# Altium integrated library Linear Technology Power Management System Supervisor, Monitor and Control.IntLib: 1611 symbols (part 97 of 100)
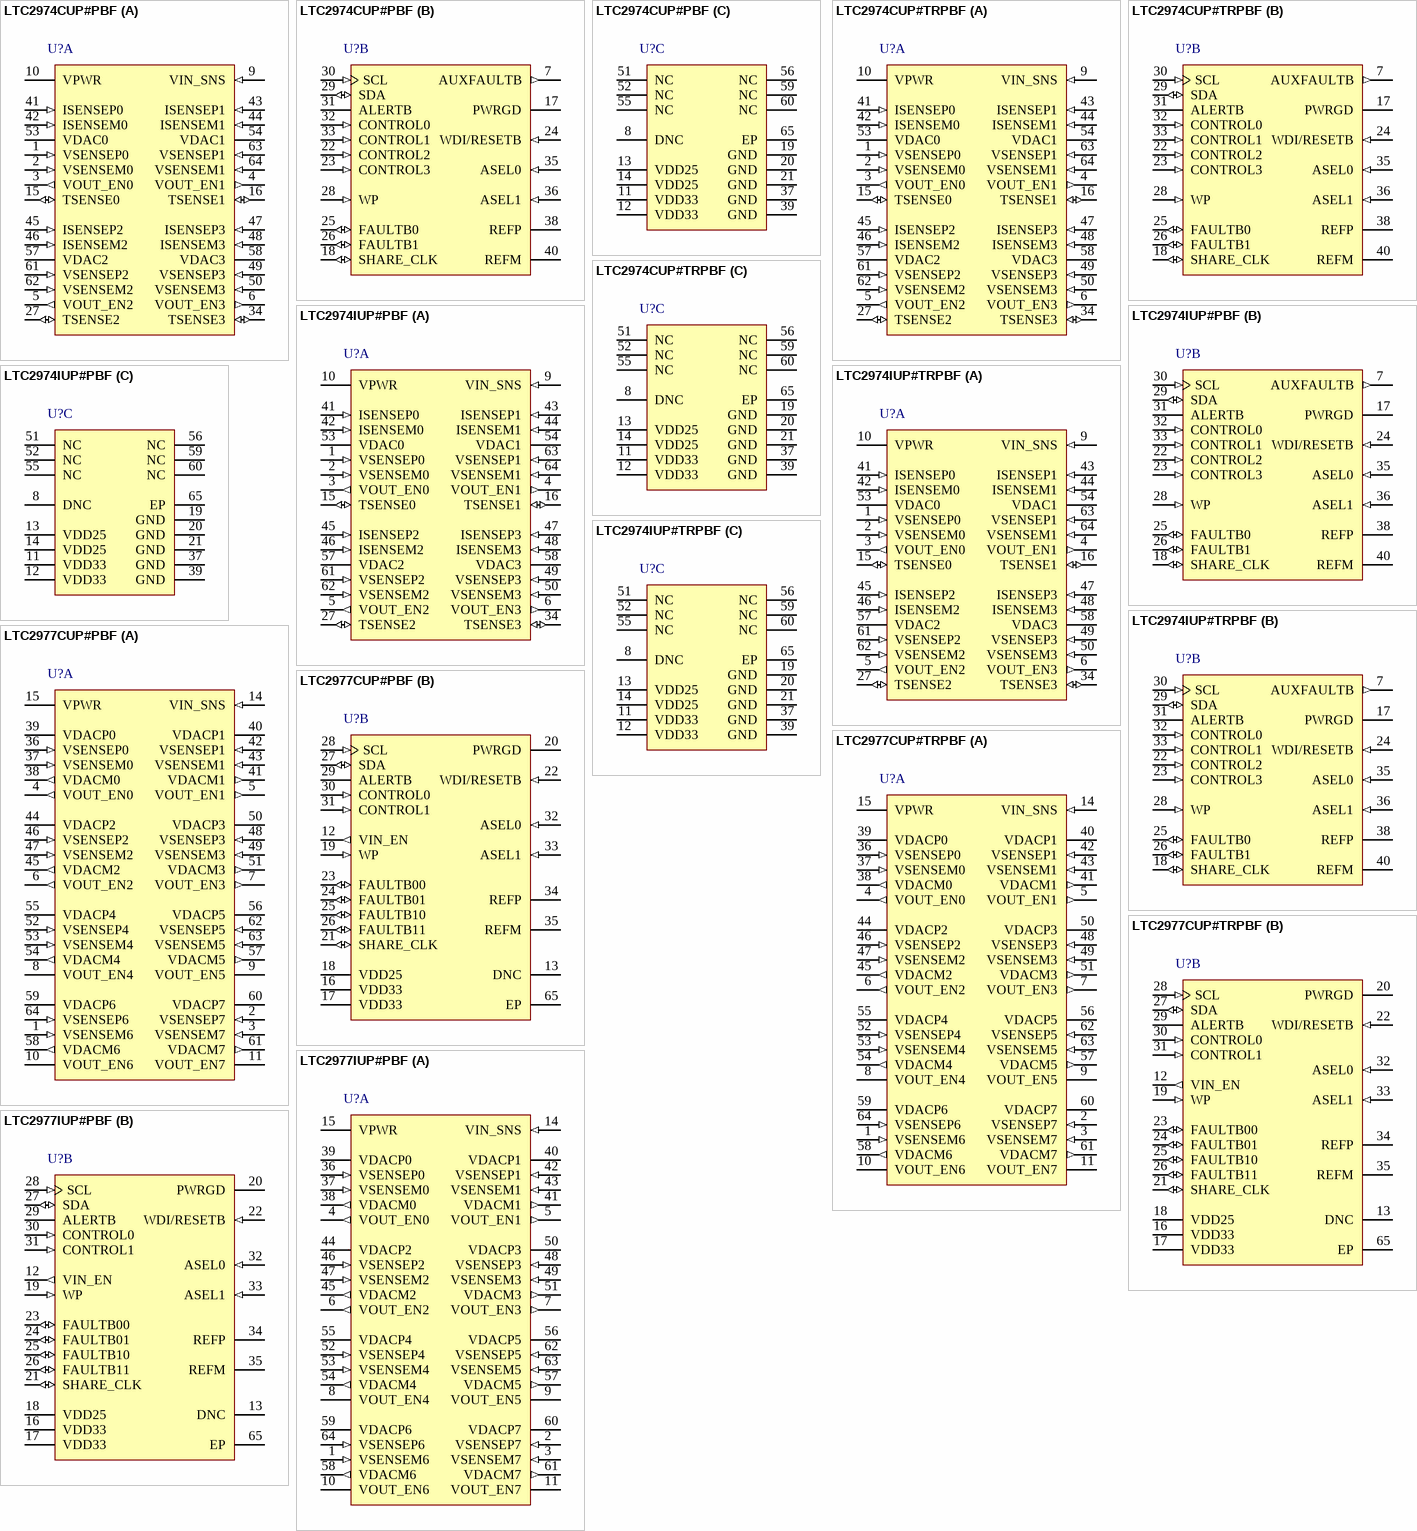
[diagram p141: symbols LTC2974CUP#PBF to LTC2977IUP#PBF]

## LTC2974CUP#TRPBF
designator U?
Quad Digital Power Supply Manager with EEPROM, 64-pin QFN (UP-64), 0 to 70 degC, Pb-Free, Tape and Reel; Manufacturer: Linear Technology; PartNumber: LTC2974CUP#TRPBF; Number of Supplies(#): 4; DatasheetVersion: Rev. A; PackageVersion: Rev. C, 06/2010; PackageReference: UP-64; PackageDescription: 64-Pin Plastic QFN, Body 9 x 9 mm, Pitch 0.5 mm; Supplier 1: Digi-Key; Supplier Part Number 1: LTC2974CUP#TRPBF-ND; Supplier 2: Newark; Supplier Part Number 2: 82T3896; Packing: Tape and Reel; RoHS: TRUE; Mounting Technology: Surface Mount; Code_JEDEC: MO-220; ComponentLink1Description: Manufacturer URL; ComponentLink1URL: http://www.linear.com/; ComponentLink2Description: Datasheet; ComponentLink2URL: http://cds.linear.com/docs/en/datasheet/2974fa.pdf; ComponentLink3Description: Package Specification; ComponentLink3URL: http://cds.linear.com/docs/en/packaging/QFN_64_05-08-1705.pdf
footprint LT-UP-64_N (QFN, 64-Leads, Body 9.1x9.1mm, Pitch 0.5mm, Thermal Pad 7.15x7.15mm, IPC Medium Density)
footprint LT-UP-64_L (QFN, 64-Leads, Body 9.1x9.1mm, Pitch 0.5mm, Thermal Pad 7.15x7.15mm, IPC High Density)
footprint LT-UP-64_M (QFN, 64-Leads, Body 9.1x9.1mm, Pitch 0.5mm, Thermal Pad 7.15x7.15mm, IPC Low Density)
part A pins: 1 VSENSEP0 (in) "DC/DC Converter Differential (+) Output Voltage-0 Sensing Pin", 2 VSENSEM0 (in) "DC/DC Converter Differential (-) Output Voltage-0 Sensing Pin", 3 VOUT_EN0 (out) "DC/DC Converter Enable-0 Pin. Output High Voltage Optionally Pulled-Up to 12V by 5uA", 4 VOUT_EN1 (out) "DC/DC Converter Enable-1 Pin. Output High Voltage Optionally Pulled-Up to 12V by 5uA", 5 VOUT_EN2 (out) "DC/DC Converter Enable-2 Pin. Output High Voltage Optionally Pulled-Up to 12V by 5uA", 6 VOUT_EN3 (out) "DC/DC Converter Enable-3 Pin. Output High Voltage Optionally Pulled-Up to 12V by 5uA", 9 VIN_SNS (in) "VIN SENSE Input. This Voltage is Compared Against the VIN On and Off Voltage Thresholds In Order to Determine When to Enable and Disable, Respectively, the Downstream DC/DC Converters", 10 VPWR (power) "VPWR Serves as the Unregulated Power Supply Input to the Chip (4.5 to 15V). If a 4.5V to 15V Supply Voltage Is Unavailable, Short VPWR to VDD33 and Power the Chip Directly from a 3.3V Supply. Bypass to GND with 0.1uF (See Datasheet)", 15 TSENSE0 (io) "External Temperature Current Output and Voltage Input for Channel 0. Maximum allowed capacitance is 1uF", 16 TSENSE1 (io) "External Temperature Current Output and Voltage Input for Channel 1. Maximum allowed capacitance is 1uF", 27 TSENSE2 (io) "External Temperature Current Output and Voltage Input for Channel 2. Maximum allowed capacitance is 1uF", 34 TSENSE3 (io) "External Temperature Current Output and Voltage Input for Channel 3. Maximum allowed capacitance is 1uF", 41 ISENSEP0 (in) "DC/DC Converter Differential (+) Output Current-0 Sensing Pin", 42 ISENSEM0 (in) "DC/DC Converter Differential (-) Output Current-0 Sensing Pin", 43 ISENSEP1 (in) "DC/DC Converter Differential (+) Output Current-1 Sensing Pin", 44 ISENSEM1 (in) "DC/DC Converter Differential (-) Output Current-1 Sensing Pin", 45 ISENSEP2 (in) "DC/DC Converter Differential (+) Output Current-2 Sensing Pin", 46 ISENSEM2 (in) "DC/DC Converter Differential (-) Output Current-2 Sensing Pin", 47 ISENSEP3 (in) "DC/DC Converter Differential (+) Output Current-3 Sensing Pin", 48 ISENSEM3 (in) "DC/DC Converter Differential (-) Output Current-3 Sensing Pin", 49 VSENSEP3 (in) "DC/DC Converter Differential (+) Output Voltage-3 Sensing Pin", 50 VSENSEM3 (in) "DC/DC Converter Differential (-) Output Voltage-3 Sensing Pin", 53 VDAC0 (hiz) "DAC0 Output", 54 VDAC1 (hiz) "DAC1 Output", 57 VDAC2 (hiz) "DAC2 Output", 58 VDAC3 (hiz) "DAC3 Output", 61 VSENSEP2 (in) "DC/DC Converter Differential (+) Output Voltage-2 Sensing Pin", 62 VSENSEM2 (in) "DC/DC Converter Differential (-) Output Voltage-2 Sensing Pin", 63 VSENSEP1 (in) "DC/DC Converter Differential (+) Output Voltage-1 Sensing Pin", 64 VSENSEM1 (in) "DC/DC Converter Differential (-) Output Voltage-1 Sensing Pin"
part B pins: 7 AUXFAULTB (out) "Auxillary Fault Output Pin. Output High Voltage Optionally Pulled-Up to 12V by 5uA. Can Be Configured to Pull Low When OV/UV/OC/UC Detected", 17 PWRGD (oc) "Power-Good Open Drain Output. Indicates When Selected Outputs Are Power Good. Can be Used as System Power-on Reset", 18 SHARE_CLK (io) "Bidirectional Clock Sharing Pin. Connect a 5.49kohm Pull-Up Resistor to VDD33", 22 CONTROL2 (in) "Control Pin 2 Input", 23 CONTROL3 (in) "Control Pin 3 Input", 24 WDI/RESETB (in) "Watchdog Timer Interrupt and Chip Reset Input. Connect a 10kohm Pull-Up Resistor to VDD33. Rising Edge Resets Watchdog Counter. Holding this Pin Low for More than tRESETB Resets the Chip", 25 FAULTB0 (io) "Open-Drain Output and Digital Input. Active Low Bidirectional Fault Indicator-0. Connect a 10kohm Pull-Up Resistor to VDD33", 26 FAULTB1 (io) "Open-Drain Output and Digital Input. Active Low Bidirectional Fault Indicator-1. Connect a 10kohm Pull-Up Resistor to VDD33", 28 WP (in) "Digital Input. Write-Protect Input Pin, Active High", 29 SDA (io) "PMBus Bidirectional Serial Data Pin", 30 SCL (in) "PMBus Serial Clock Input Pin (400kHz Maximum)", 31 ALERTB (oc) "Open-Drain Output. Generates an Interrupt Request in a Fault/Warning Situation", 32 CONTROL0 (in) "Control Pin 0 Input", 33 CONTROL1 (in) "Control Pin 1 Input", 35 ASEL0 (in) "Ternary Address Select Pin 0 Input. Connect to VDD33, GND or Float to Encode 1 of 3 Logic States", 36 ASEL1 (in) "Ternary Address Select Pin 1 Input. Connect to VDD33, GND or Float to Encode 1 of 3 Logic States", 38 REFP "Reference Voltage Output. Needs 0.1uF Decoupling Capacitor to REFM", 40 REFM "Reference Return Pin. Needs 0.1uF Decoupling Capacitor to REFP"
part C pins: 8 DNC "Do Not Connect to this Pin", 11 VDD33 (power) "If Shorted to VPWR, It Serves as 3.13 to 3.47V Supply Input Pin. Otherwise It Is a 3.3V Internally Regulated Voltage Output (Use 0.1uF Decoupling Capacitor to GND)", 12 VDD33 (power) "Input for Internal 2.5V Sub-Regulator. Short this Pin to Pin 11", 13 VDD25 (power) "2.5V Internally Regulated Voltage Output. Bypass to GND with a 0.1uF Capacitor", 14 VDD25 (power) "2.5V Supply Voltage Input. Short this Pin to Pin 13", 19 GND (power) "Chip Ground. Must Be Soldered to PCB", 20 GND (power) "Chip Ground. Must Be Soldered to PCB", 21 GND (power) "Chip Ground. Must Be Soldered to PCB", 37 GND (power) "Chip Ground. Must Be Soldered to PCB", 39 GND (power) "Chip Ground. Must Be Soldered to PCB", 51 NC "No Connect", 52 NC "No Connect", 55 NC "No Connect", 56 NC "No Connect", 59 NC "No Connect", 60 NC "No Connect", 65 EP (power) "Exposed Pad. Must Be Soldered to PCB"

## LTC2974IUP#PBF
designator U?
Quad Digital Power Supply Manager with EEPROM, 64-pin QFN (UP-64), -40 to 85 degC, Pb-Free; Manufacturer: Linear Technology; PartNumber: LTC2974IUP#PBF; Number of Supplies(#): 4; DatasheetVersion: Rev. A; PackageVersion: Rev. C, 06/2010; PackageReference: UP-64; PackageDescription: 64-Pin Plastic QFN, Body 9 x 9 mm, Pitch 0.5 mm; Supplier 1: Digi-Key; Supplier Part Number 1: LTC2974IUP#PBF-ND; Supplier 2: Farnell; Supplier Part Number 2: 2097944; Supplier 3: Newark; Supplier Part Number 3: 82T3897; RoHS: TRUE; Mounting Technology: Surface Mount; Code_JEDEC: MO-220; ComponentLink1Description: Manufacturer URL; ComponentLink1URL: http://www.linear.com/; ComponentLink2Description: Datasheet; ComponentLink2URL: http://cds.linear.com/docs/en/datasheet/2974fa.pdf; ComponentLink3Description: Package Specification; ComponentLink3URL: http://cds.linear.com/docs/en/packaging/QFN_64_05-08-1705.pdf
footprint LT-UP-64_N (QFN, 64-Leads, Body 9.1x9.1mm, Pitch 0.5mm, Thermal Pad 7.15x7.15mm, IPC Medium Density)
footprint LT-UP-64_L (QFN, 64-Leads, Body 9.1x9.1mm, Pitch 0.5mm, Thermal Pad 7.15x7.15mm, IPC High Density)
footprint LT-UP-64_M (QFN, 64-Leads, Body 9.1x9.1mm, Pitch 0.5mm, Thermal Pad 7.15x7.15mm, IPC Low Density)
part A pins: 1 VSENSEP0 (in) "DC/DC Converter Differential (+) Output Voltage-0 Sensing Pin", 2 VSENSEM0 (in) "DC/DC Converter Differential (-) Output Voltage-0 Sensing Pin", 3 VOUT_EN0 (out) "DC/DC Converter Enable-0 Pin. Output High Voltage Optionally Pulled-Up to 12V by 5uA", 4 VOUT_EN1 (out) "DC/DC Converter Enable-1 Pin. Output High Voltage Optionally Pulled-Up to 12V by 5uA", 5 VOUT_EN2 (out) "DC/DC Converter Enable-2 Pin. Output High Voltage Optionally Pulled-Up to 12V by 5uA", 6 VOUT_EN3 (out) "DC/DC Converter Enable-3 Pin. Output High Voltage Optionally Pulled-Up to 12V by 5uA", 9 VIN_SNS (in) "VIN SENSE Input. This Voltage is Compared Against the VIN On and Off Voltage Thresholds In Order to Determine When to Enable and Disable, Respectively, the Downstream DC/DC Converters", 10 VPWR (power) "VPWR Serves as the Unregulated Power Supply Input to the Chip (4.5 to 15V). If a 4.5V to 15V Supply Voltage Is Unavailable, Short VPWR to VDD33 and Power the Chip Directly from a 3.3V Supply. Bypass to GND with 0.1uF (See Datasheet)", 15 TSENSE0 (io) "External Temperature Current Output and Voltage Input for Channel 0. Maximum allowed capacitance is 1uF", 16 TSENSE1 (io) "External Temperature Current Output and Voltage Input for Channel 1. Maximum allowed capacitance is 1uF", 27 TSENSE2 (io) "External Temperature Current Output and Voltage Input for Channel 2. Maximum allowed capacitance is 1uF", 34 TSENSE3 (io) "External Temperature Current Output and Voltage Input for Channel 3. Maximum allowed capacitance is 1uF", 41 ISENSEP0 (in) "DC/DC Converter Differential (+) Output Current-0 Sensing Pin", 42 ISENSEM0 (in) "DC/DC Converter Differential (-) Output Current-0 Sensing Pin", 43 ISENSEP1 (in) "DC/DC Converter Differential (+) Output Current-1 Sensing Pin", 44 ISENSEM1 (in) "DC/DC Converter Differential (-) Output Current-1 Sensing Pin", 45 ISENSEP2 (in) "DC/DC Converter Differential (+) Output Current-2 Sensing Pin", 46 ISENSEM2 (in) "DC/DC Converter Differential (-) Output Current-2 Sensing Pin", 47 ISENSEP3 (in) "DC/DC Converter Differential (+) Output Current-3 Sensing Pin", 48 ISENSEM3 (in) "DC/DC Converter Differential (-) Output Current-3 Sensing Pin", 49 VSENSEP3 (in) "DC/DC Converter Differential (+) Output Voltage-3 Sensing Pin", 50 VSENSEM3 (in) "DC/DC Converter Differential (-) Output Voltage-3 Sensing Pin", 53 VDAC0 (hiz) "DAC0 Output", 54 VDAC1 (hiz) "DAC1 Output", 57 VDAC2 (hiz) "DAC2 Output", 58 VDAC3 (hiz) "DAC3 Output", 61 VSENSEP2 (in) "DC/DC Converter Differential (+) Output Voltage-2 Sensing Pin", 62 VSENSEM2 (in) "DC/DC Converter Differential (-) Output Voltage-2 Sensing Pin", 63 VSENSEP1 (in) "DC/DC Converter Differential (+) Output Voltage-1 Sensing Pin", 64 VSENSEM1 (in) "DC/DC Converter Differential (-) Output Voltage-1 Sensing Pin"
part B pins: 7 AUXFAULTB (out) "Auxillary Fault Output Pin. Output High Voltage Optionally Pulled-Up to 12V by 5uA. Can Be Configured to Pull Low When OV/UV/OC/UC Detected", 17 PWRGD (oc) "Power-Good Open Drain Output. Indicates When Selected Outputs Are Power Good. Can be Used as System Power-on Reset", 18 SHARE_CLK (io) "Bidirectional Clock Sharing Pin. Connect a 5.49kohm Pull-Up Resistor to VDD33", 22 CONTROL2 (in) "Control Pin 2 Input", 23 CONTROL3 (in) "Control Pin 3 Input", 24 WDI/RESETB (in) "Watchdog Timer Interrupt and Chip Reset Input. Connect a 10kohm Pull-Up Resistor to VDD33. Rising Edge Resets Watchdog Counter. Holding this Pin Low for More than tRESETB Resets the Chip", 25 FAULTB0 (io) "Open-Drain Output and Digital Input. Active Low Bidirectional Fault Indicator-0. Connect a 10kohm Pull-Up Resistor to VDD33", 26 FAULTB1 (io) "Open-Drain Output and Digital Input. Active Low Bidirectional Fault Indicator-1. Connect a 10kohm Pull-Up Resistor to VDD33", 28 WP (in) "Digital Input. Write-Protect Input Pin, Active High", 29 SDA (io) "PMBus Bidirectional Serial Data Pin", 30 SCL (in) "PMBus Serial Clock Input Pin (400kHz Maximum)", 31 ALERTB (oc) "Open-Drain Output. Generates an Interrupt Request in a Fault/Warning Situation", 32 CONTROL0 (in) "Control Pin 0 Input", 33 CONTROL1 (in) "Control Pin 1 Input", 35 ASEL0 (in) "Ternary Address Select Pin 0 Input. Connect to VDD33, GND or Float to Encode 1 of 3 Logic States", 36 ASEL1 (in) "Ternary Address Select Pin 1 Input. Connect to VDD33, GND or Float to Encode 1 of 3 Logic States", 38 REFP "Reference Voltage Output. Needs 0.1uF Decoupling Capacitor to REFM", 40 REFM "Reference Return Pin. Needs 0.1uF Decoupling Capacitor to REFP"
part C pins: 8 DNC "Do Not Connect to this Pin", 11 VDD33 (power) "If Shorted to VPWR, It Serves as 3.13 to 3.47V Supply Input Pin. Otherwise It Is a 3.3V Internally Regulated Voltage Output (Use 0.1uF Decoupling Capacitor to GND)", 12 VDD33 (power) "Input for Internal 2.5V Sub-Regulator. Short this Pin to Pin 11", 13 VDD25 (power) "2.5V Internally Regulated Voltage Output. Bypass to GND with a 0.1uF Capacitor", 14 VDD25 (power) "2.5V Supply Voltage Input. Short this Pin to Pin 13", 19 GND (power) "Chip Ground. Must Be Soldered to PCB", 20 GND (power) "Chip Ground. Must Be Soldered to PCB", 21 GND (power) "Chip Ground. Must Be Soldered to PCB", 37 GND (power) "Chip Ground. Must Be Soldered to PCB", 39 GND (power) "Chip Ground. Must Be Soldered to PCB", 51 NC "No Connect", 52 NC "No Connect", 55 NC "No Connect", 56 NC "No Connect", 59 NC "No Connect", 60 NC "No Connect", 65 EP (power) "Exposed Pad. Must Be Soldered to PCB"

## LTC2974IUP#TRPBF
designator U?
Quad Digital Power Supply Manager with EEPROM, 64-pin QFN (UP-64), -40 to 85 degC, Pb-Free, Tape and Reel; Manufacturer: Linear Technology; PartNumber: LTC2974IUP#TRPBF; Number of Supplies(#): 4; DatasheetVersion: Rev. A; PackageVersion: Rev. C, 06/2010; PackageReference: UP-64; PackageDescription: 64-Pin Plastic QFN, Body 9 x 9 mm, Pitch 0.5 mm; Supplier 1: Digi-Key; Supplier Part Number 1: LTC2974IUP#TRPBF-ND; Packing: Tape and Reel; RoHS: TRUE; Mounting Technology: Surface Mount; Code_JEDEC: MO-220; ComponentLink1Description: Manufacturer URL; ComponentLink1URL: http://www.linear.com/; ComponentLink2Description: Datasheet; ComponentLink2URL: http://cds.linear.com/docs/en/datasheet/2974fa.pdf; ComponentLink3Description: Package Specification; ComponentLink3URL: http://cds.linear.com/docs/en/packaging/QFN_64_05-08-1705.pdf
footprint LT-UP-64_N (QFN, 64-Leads, Body 9.1x9.1mm, Pitch 0.5mm, Thermal Pad 7.15x7.15mm, IPC Medium Density)
footprint LT-UP-64_L (QFN, 64-Leads, Body 9.1x9.1mm, Pitch 0.5mm, Thermal Pad 7.15x7.15mm, IPC High Density)
footprint LT-UP-64_M (QFN, 64-Leads, Body 9.1x9.1mm, Pitch 0.5mm, Thermal Pad 7.15x7.15mm, IPC Low Density)
part A pins: 1 VSENSEP0 (in) "DC/DC Converter Differential (+) Output Voltage-0 Sensing Pin", 2 VSENSEM0 (in) "DC/DC Converter Differential (-) Output Voltage-0 Sensing Pin", 3 VOUT_EN0 (out) "DC/DC Converter Enable-0 Pin. Output High Voltage Optionally Pulled-Up to 12V by 5uA", 4 VOUT_EN1 (out) "DC/DC Converter Enable-1 Pin. Output High Voltage Optionally Pulled-Up to 12V by 5uA", 5 VOUT_EN2 (out) "DC/DC Converter Enable-2 Pin. Output High Voltage Optionally Pulled-Up to 12V by 5uA", 6 VOUT_EN3 (out) "DC/DC Converter Enable-3 Pin. Output High Voltage Optionally Pulled-Up to 12V by 5uA", 9 VIN_SNS (in) "VIN SENSE Input. This Voltage is Compared Against the VIN On and Off Voltage Thresholds In Order to Determine When to Enable and Disable, Respectively, the Downstream DC/DC Converters", 10 VPWR (power) "VPWR Serves as the Unregulated Power Supply Input to the Chip (4.5 to 15V). If a 4.5V to 15V Supply Voltage Is Unavailable, Short VPWR to VDD33 and Power the Chip Directly from a 3.3V Supply. Bypass to GND with 0.1uF (See Datasheet)", 15 TSENSE0 (io) "External Temperature Current Output and Voltage Input for Channel 0. Maximum allowed capacitance is 1uF", 16 TSENSE1 (io) "External Temperature Current Output and Voltage Input for Channel 1. Maximum allowed capacitance is 1uF", 27 TSENSE2 (io) "External Temperature Current Output and Voltage Input for Channel 2. Maximum allowed capacitance is 1uF", 34 TSENSE3 (io) "External Temperature Current Output and Voltage Input for Channel 3. Maximum allowed capacitance is 1uF", 41 ISENSEP0 (in) "DC/DC Converter Differential (+) Output Current-0 Sensing Pin", 42 ISENSEM0 (in) "DC/DC Converter Differential (-) Output Current-0 Sensing Pin", 43 ISENSEP1 (in) "DC/DC Converter Differential (+) Output Current-1 Sensing Pin", 44 ISENSEM1 (in) "DC/DC Converter Differential (-) Output Current-1 Sensing Pin", 45 ISENSEP2 (in) "DC/DC Converter Differential (+) Output Current-2 Sensing Pin", 46 ISENSEM2 (in) "DC/DC Converter Differential (-) Output Current-2 Sensing Pin", 47 ISENSEP3 (in) "DC/DC Converter Differential (+) Output Current-3 Sensing Pin", 48 ISENSEM3 (in) "DC/DC Converter Differential (-) Output Current-3 Sensing Pin", 49 VSENSEP3 (in) "DC/DC Converter Differential (+) Output Voltage-3 Sensing Pin", 50 VSENSEM3 (in) "DC/DC Converter Differential (-) Output Voltage-3 Sensing Pin", 53 VDAC0 (hiz) "DAC0 Output", 54 VDAC1 (hiz) "DAC1 Output", 57 VDAC2 (hiz) "DAC2 Output", 58 VDAC3 (hiz) "DAC3 Output", 61 VSENSEP2 (in) "DC/DC Converter Differential (+) Output Voltage-2 Sensing Pin", 62 VSENSEM2 (in) "DC/DC Converter Differential (-) Output Voltage-2 Sensing Pin", 63 VSENSEP1 (in) "DC/DC Converter Differential (+) Output Voltage-1 Sensing Pin", 64 VSENSEM1 (in) "DC/DC Converter Differential (-) Output Voltage-1 Sensing Pin"
part B pins: 7 AUXFAULTB (out) "Auxillary Fault Output Pin. Output High Voltage Optionally Pulled-Up to 12V by 5uA. Can Be Configured to Pull Low When OV/UV/OC/UC Detected", 17 PWRGD (oc) "Power-Good Open Drain Output. Indicates When Selected Outputs Are Power Good. Can be Used as System Power-on Reset", 18 SHARE_CLK (io) "Bidirectional Clock Sharing Pin. Connect a 5.49kohm Pull-Up Resistor to VDD33", 22 CONTROL2 (in) "Control Pin 2 Input", 23 CONTROL3 (in) "Control Pin 3 Input", 24 WDI/RESETB (in) "Watchdog Timer Interrupt and Chip Reset Input. Connect a 10kohm Pull-Up Resistor to VDD33. Rising Edge Resets Watchdog Counter. Holding this Pin Low for More than tRESETB Resets the Chip", 25 FAULTB0 (io) "Open-Drain Output and Digital Input. Active Low Bidirectional Fault Indicator-0. Connect a 10kohm Pull-Up Resistor to VDD33", 26 FAULTB1 (io) "Open-Drain Output and Digital Input. Active Low Bidirectional Fault Indicator-1. Connect a 10kohm Pull-Up Resistor to VDD33", 28 WP (in) "Digital Input. Write-Protect Input Pin, Active High", 29 SDA (io) "PMBus Bidirectional Serial Data Pin", 30 SCL (in) "PMBus Serial Clock Input Pin (400kHz Maximum)", 31 ALERTB (oc) "Open-Drain Output. Generates an Interrupt Request in a Fault/Warning Situation", 32 CONTROL0 (in) "Control Pin 0 Input", 33 CONTROL1 (in) "Control Pin 1 Input", 35 ASEL0 (in) "Ternary Address Select Pin 0 Input. Connect to VDD33, GND or Float to Encode 1 of 3 Logic States", 36 ASEL1 (in) "Ternary Address Select Pin 1 Input. Connect to VDD33, GND or Float to Encode 1 of 3 Logic States", 38 REFP "Reference Voltage Output. Needs 0.1uF Decoupling Capacitor to REFM", 40 REFM "Reference Return Pin. Needs 0.1uF Decoupling Capacitor to REFP"
part C pins: 8 DNC "Do Not Connect to this Pin", 11 VDD33 (power) "If Shorted to VPWR, It Serves as 3.13 to 3.47V Supply Input Pin. Otherwise It Is a 3.3V Internally Regulated Voltage Output (Use 0.1uF Decoupling Capacitor to GND)", 12 VDD33 (power) "Input for Internal 2.5V Sub-Regulator. Short this Pin to Pin 11", 13 VDD25 (power) "2.5V Internally Regulated Voltage Output. Bypass to GND with a 0.1uF Capacitor", 14 VDD25 (power) "2.5V Supply Voltage Input. Short this Pin to Pin 13", 19 GND (power) "Chip Ground. Must Be Soldered to PCB", 20 GND (power) "Chip Ground. Must Be Soldered to PCB", 21 GND (power) "Chip Ground. Must Be Soldered to PCB", 37 GND (power) "Chip Ground. Must Be Soldered to PCB", 39 GND (power) "Chip Ground. Must Be Soldered to PCB", 51 NC "No Connect", 52 NC "No Connect", 55 NC "No Connect", 56 NC "No Connect", 59 NC "No Connect", 60 NC "No Connect", 65 EP (power) "Exposed Pad. Must Be Soldered to PCB"

## LTC2977CUP#PBF
designator U?
8-Channel PMBus Power System Manager Featuring Accurate Output Voltage Measurement, 64-pin QFN (UP-64), 0 to 70 degC, Pb-Free; Manufacturer: Linear Technology; PartNumber: LTC2977CUP#PBF; Number of Supplies(#): 8; PackageVersion: Rev. C, 06/2010; PackageReference: UP-64; PackageDescription: 64-Pin Plastic QFN, Body 9 x 9 mm, Pitch 0.5 mm; Supplier 1: Digi-Key; Supplier Part Number 1: LTC2977CUP#PBF-ND; Supplier 2: Farnell; Supplier Part Number 2: 2322393; Supplier 3: Newark; Supplier Part Number 3: 86W7062; RoHS: TRUE; Mounting Technology: Surface Mount; Code_JEDEC: MO-220; ComponentLink1Description: Manufacturer URL; ComponentLink1URL: http://www.linear.com/; ComponentLink2Description: Datasheet; ComponentLink2URL: http://cds.linear.com/docs/en/datasheet/2977f.pdf; ComponentLink3Description: Package Specification; ComponentLink3URL: http://cds.linear.com/docs/en/packaging/QFN_64_05-08-1705.pdf
footprint LT-UP-64_N (QFN, 64-Leads, Body 9.1x9.1mm, Pitch 0.5mm, Thermal Pad 7.15x7.15mm, IPC Medium Density)
footprint LT-UP-64_L (QFN, 64-Leads, Body 9.1x9.1mm, Pitch 0.5mm, Thermal Pad 7.15x7.15mm, IPC High Density)
footprint LT-UP-64_M (QFN, 64-Leads, Body 9.1x9.1mm, Pitch 0.5mm, Thermal Pad 7.15x7.15mm, IPC Low Density)
part A pins: 1 VSENSEM6 (in) "DC/DC Converter Differential (-) Output Voltage-6 Sensing Pin", 2 VSENSEP7 (in) "DC/DC Converter Differential (+) Output Voltage or Current-7 Sensing Pin", 3 VSENSEM7 (in) "DC/DC Converter Differential (-) Output Voltage or Current-7 Sensing Pin", 4 VOUT_EN0 (out) "DC/DC Converter Enable-0 Pin. Output High Voltage Optionally Pulled Up to 12V by 5uA", 5 VOUT_EN1 (out) "DC/DC Converter Enable-1 Pin. Output High Voltage Optionally Pulled Up to 12V by 5uA", 6 VOUT_EN2 (out) "DC/DC Converter Enable-2 Pin. Output High Voltage Optionally Pulled Up to 12V by 5uA", 7 VOUT_EN3 (out) "DC/DC Converter Enable-3 Pin. Output High Voltage Optionally Pulled Up to 12V by 5uA", 8 VOUT_EN4 (oc) "DC/DC Converter Open-Drain Pull-Down Output-4", 9 VOUT_EN5 (oc) "DC/DC Converter Open-Drain Pull-Down Output-5", 10 VOUT_EN6 (oc) "DC/DC Converter Open-Drain Pull-Down Output-6", 11 VOUT_EN7 (oc) "DC/DC Converter Open-Drain Pull-Down Output-7", 14 VIN_SNS (in) "VIN SENSE Input. This Voltage is Compared Against the VIN On and Off Voltage Thresholds in Order to Determine When to Enable and Disable, Respectively, the Downstream DC/DC Converters.", 15 VPWR (power) "VPWR Serves as the Unregulated Power Supply Input to the Chip (4.5V to 15V). If a 4.5V to 15V Supply Voltage is Unavailable, Short VPWR to VDD33 and Power the Chip Directly from a 3.3V Supply. Bypass to GND with 0.1uF (See Datasheet)", 36 VSENSEP0 (in) "DC/DC Converter Differential (+) Output Voltage-0 Sensing Pin", 37 VSENSEM0 (in) "DC/DC Converter Differential (-) Output Voltage-0 Sensing Pin", 38 VDACM0 (out) "DAC0 Return. Connect to Channel 0 DC/DC Converter's GND Sense or Return to GND.", 39 VDACP0 (hiz) "DAC0 Output", 40 VDACP1 (hiz) "DAC1 Output", 41 VDACM1 (out) "DAC1 Return. Connect to Channel 1 DC/DC Converter's GND Sense or Return to GND.", 42 VSENSEP1 (in) "DC/DC Converter Differential (+) Output Voltage or Current-1 Sensing Pins", 43 VSENSEM1 (in) "DC/DC Converter Differential (-) Output Voltage or Current-1 Sensing Pins", 44 VDACP2 (hiz) "DAC2 Output", 45 VDACM2 (out) "DAC2 Return. Connect to Channel 2 DC/DC Converter's GND Sense or Return to GND.", 46 VSENSEP2 (in) "DC/DC Converter Differential (+) Output Voltage-2 Sensing Pin", 47 VSENSEM2 (in) "DC/DC Converter Differential (-) Output Voltage-2 Sensing Pin", 48 VSENSEP3 (in) "DC/DC Converter Differential (+) Output Voltage or Current-3 Sensing Pins", 49 VSENSEM3 (in) "DC/DC Converter Differential (-) Output Voltage or Current-3 Sensing Pins", 50 VDACP3 (hiz) "DAC3 Output", 51 VDACM3 (out) "DAC3 Return. Connect to Channel 3 DC/DC Converter's GND Sense or Return to GND.", 52 VSENSEP4 (in) "DC/DC Converter Differential (+) Output Voltage-4 Sensing Pin", 53 VSENSEM4 (in) "DC/DC Converter Differential (-) Output Voltage-4 Sensing Pin", 54 VDACM4 (out) "DAC4 Return. Connect to Channel 4 DC/DC Converter's GND Sense or Return to GND.", 55 VDACP4 (hiz) "DAC4 Output", 56 VDACP5 (hiz) "DAC5 Output", 57 VDACM5 (out) "DAC5 Return. Connect to Channel 5 DC/DC Converter's GND Sense or Return to GND.", 58 VDACM6 (out) "DAC6 Return. Connect to Channel 6 DC/DC Converter's GND Sense or Return to GND.", 59 VDACP6 (hiz) "DAC6 Output", 60 VDACP7 (hiz) "DAC7 Output", 61 VDACM7 (out) "DAC7 Return. Connect to Channel 7 DC/DC Converter's GND Sense or Return to GND.", 62 VSENSEP5 (in) "DC/DC Converter Differential (+) Output Voltage or Current-5 Sensing Pins", 63 VSENSEM5 (in) "DC/DC Converter Differential (-) Output Voltage or Current-5 Sensing Pins", 64 VSENSEP6 (in) "DC/DC Converter Differential (+) Output Voltage-6 Sensing Pin"
part B pins: 12 VIN_EN (out) "DC/DC Converter VIN ENABLE Pin. Output High Voltage Optionally Pulled Up to 12V by 5uA", 13 DNC "Do Not Connect to This Pin", 16 VDD33 (power) "If Shorted to VPWR, it Serves as 3.13V to 3.47V Supply Input Pin. Otherwise, it is a 3.3V Internally Regulated Voltage Output (Use 0.1uF Decoupling Capacitor to GND).", 17 VDD33 (power) "Input for Internal 2.5V Sub-Regulator. Short This Pin to Pin 16.", 18 VDD25 (power) "2.5V Internally Regulated Voltage Output. Bypass to GND with a 0.1uF Capacitor.", 19 WP (in) "Digital Input. Write-Protect Input Pin, Active High.", 20 PWRGD (oc) "Power Good Open-Drain Output. Indicates When Outputs are Power Good. Can be Used as System Power-On Reset.", 21 SHARE_CLK (io) "Bidirectional Clock Sharing Pin. Connect a 5.49k Pull-Up Resistor to VDD33.", 22 WDI/RESETB (in) "Watchdog Timer Interrupt and Chip Reset Input. Connect a 10k Pull-Up Resistor to VDD33. Rising Edge Resets Watchdog Counter. Holding This Pin Low for More Than tRESETB Resets the Chip.", 23 FAULTB00 (io) "Open-Drain Output and Digital Input. Active Low Bidirectional Fault Indicator-00. Connect a 10k Pull-Up Resistor to VDD33.", 24 FAULTB01 (io) "Open-Drain Output and Digital Input. Active Low Bidirectional Fault Indicator-01. Connect a 10k Pull-Up Resistor to VDD33.", 25 FAULTB10 (io) "Open-Drain Output and Digital Input. Active Low Bidirectional Fault Indicator-10. Connect a 10k Pull-Up Resistor to VDD33.", 26 FAULTB11 (io) "Open-Drain Output and Digital Input. Active Low Bidirectional Fault Indicator-11. Connect a 10k Pull-Up Resistor to VDD33.", 27 SDA (io) "PMBus Bidirectional Serial Data Pin", 28 SCL (in) "PMBus Serial Clock Input Pin (400kHz Maximum)", 29 ALERTB (oc) "Open-Drain Output. Generates an Interrupt Request in a Fault/Warning Situation.", 30 CONTROL0 (in) "Control Pin 0 Input", 31 CONTROL1 (in) "Control Pin 1 Input", 32 ASEL0 (in) "Ternary Address Select Pin 0 Input. Connect to VDD33, GND or Float to Encode 1 of 3 Logic States.", 33 ASEL1 (in) "Ternary Address Select Pin 1 Input. Connect to VDD33, GND or Float to Encode 1 of 3 Logic States.", 34 REFP "Reference Voltage Output. Needs 0.1uF Decoupling Capacitor to REFM.", 35 REFM "Reference Return Pin. Needs 0.1uF Decoupling Capacitor to REFP.", 65 EP (power) "Exposed Pad, Must be Soldered to PCB"

## LTC2977CUP#TRPBF
designator U?
8-Channel PMBus Power System Manager Featuring Accurate Output Voltage Measurement, 64-pin QFN (UP-64), 0 to 70 degC, Pb-Free, Tape and Reel; Manufacturer: Linear Technology; PartNumber: LTC2977CUP#TRPBF; Number of Supplies(#): 8; PackageVersion: Rev. C, 06/2010; PackageReference: UP-64; PackageDescription: 64-Pin Plastic QFN, Body 9 x 9 mm, Pitch 0.5 mm; Supplier 1: Digi-Key; Supplier Part Number 1: LTC2977CUP#TRPBF-ND; Supplier 2: Newark; Supplier Part Number 2: 86W7063; Supplier 3: Newark; Supplier Part Number 3: 87W6203; Packing: Tape and Reel; RoHS: TRUE; Mounting Technology: Surface Mount; Code_JEDEC: MO-220; ComponentLink1Description: Manufacturer URL; ComponentLink1URL: http://www.linear.com/; ComponentLink2Description: Datasheet; ComponentLink2URL: http://cds.linear.com/docs/en/datasheet/2977f.pdf; ComponentLink3Description: Package Specification; ComponentLink3URL: http://cds.linear.com/docs/en/packaging/QFN_64_05-08-1705.pdf
footprint LT-UP-64_N (QFN, 64-Leads, Body 9.1x9.1mm, Pitch 0.5mm, Thermal Pad 7.15x7.15mm, IPC Medium Density)
footprint LT-UP-64_L (QFN, 64-Leads, Body 9.1x9.1mm, Pitch 0.5mm, Thermal Pad 7.15x7.15mm, IPC High Density)
footprint LT-UP-64_M (QFN, 64-Leads, Body 9.1x9.1mm, Pitch 0.5mm, Thermal Pad 7.15x7.15mm, IPC Low Density)
part A pins: 1 VSENSEM6 (in) "DC/DC Converter Differential (-) Output Voltage-6 Sensing Pin", 2 VSENSEP7 (in) "DC/DC Converter Differential (+) Output Voltage or Current-7 Sensing Pin", 3 VSENSEM7 (in) "DC/DC Converter Differential (-) Output Voltage or Current-7 Sensing Pin", 4 VOUT_EN0 (out) "DC/DC Converter Enable-0 Pin. Output High Voltage Optionally Pulled Up to 12V by 5uA", 5 VOUT_EN1 (out) "DC/DC Converter Enable-1 Pin. Output High Voltage Optionally Pulled Up to 12V by 5uA", 6 VOUT_EN2 (out) "DC/DC Converter Enable-2 Pin. Output High Voltage Optionally Pulled Up to 12V by 5uA", 7 VOUT_EN3 (out) "DC/DC Converter Enable-3 Pin. Output High Voltage Optionally Pulled Up to 12V by 5uA", 8 VOUT_EN4 (oc) "DC/DC Converter Open-Drain Pull-Down Output-4", 9 VOUT_EN5 (oc) "DC/DC Converter Open-Drain Pull-Down Output-5", 10 VOUT_EN6 (oc) "DC/DC Converter Open-Drain Pull-Down Output-6", 11 VOUT_EN7 (oc) "DC/DC Converter Open-Drain Pull-Down Output-7", 14 VIN_SNS (in) "VIN SENSE Input. This Voltage is Compared Against the VIN On and Off Voltage Thresholds in Order to Determine When to Enable and Disable, Respectively, the Downstream DC/DC Converters.", 15 VPWR (power) "VPWR Serves as the Unregulated Power Supply Input to the Chip (4.5V to 15V). If a 4.5V to 15V Supply Voltage is Unavailable, Short VPWR to VDD33 and Power the Chip Directly from a 3.3V Supply. Bypass to GND with 0.1uF (See Datasheet)", 36 VSENSEP0 (in) "DC/DC Converter Differential (+) Output Voltage-0 Sensing Pin", 37 VSENSEM0 (in) "DC/DC Converter Differential (-) Output Voltage-0 Sensing Pin", 38 VDACM0 (out) "DAC0 Return. Connect to Channel 0 DC/DC Converter's GND Sense or Return to GND.", 39 VDACP0 (hiz) "DAC0 Output", 40 VDACP1 (hiz) "DAC1 Output", 41 VDACM1 (out) "DAC1 Return. Connect to Channel 1 DC/DC Converter's GND Sense or Return to GND.", 42 VSENSEP1 (in) "DC/DC Converter Differential (+) Output Voltage or Current-1 Sensing Pins", 43 VSENSEM1 (in) "DC/DC Converter Differential (-) Output Voltage or Current-1 Sensing Pins", 44 VDACP2 (hiz) "DAC2 Output", 45 VDACM2 (out) "DAC2 Return. Connect to Channel 2 DC/DC Converter's GND Sense or Return to GND.", 46 VSENSEP2 (in) "DC/DC Converter Differential (+) Output Voltage-2 Sensing Pin", 47 VSENSEM2 (in) "DC/DC Converter Differential (-) Output Voltage-2 Sensing Pin", 48 VSENSEP3 (in) "DC/DC Converter Differential (+) Output Voltage or Current-3 Sensing Pins", 49 VSENSEM3 (in) "DC/DC Converter Differential (-) Output Voltage or Current-3 Sensing Pins", 50 VDACP3 (hiz) "DAC3 Output", 51 VDACM3 (out) "DAC3 Return. Connect to Channel 3 DC/DC Converter's GND Sense or Return to GND.", 52 VSENSEP4 (in) "DC/DC Converter Differential (+) Output Voltage-4 Sensing Pin", 53 VSENSEM4 (in) "DC/DC Converter Differential (-) Output Voltage-4 Sensing Pin", 54 VDACM4 (out) "DAC4 Return. Connect to Channel 4 DC/DC Converter's GND Sense or Return to GND.", 55 VDACP4 (hiz) "DAC4 Output", 56 VDACP5 (hiz) "DAC5 Output", 57 VDACM5 (out) "DAC5 Return. Connect to Channel 5 DC/DC Converter's GND Sense or Return to GND.", 58 VDACM6 (out) "DAC6 Return. Connect to Channel 6 DC/DC Converter's GND Sense or Return to GND.", 59 VDACP6 (hiz) "DAC6 Output", 60 VDACP7 (hiz) "DAC7 Output", 61 VDACM7 (out) "DAC7 Return. Connect to Channel 7 DC/DC Converter's GND Sense or Return to GND.", 62 VSENSEP5 (in) "DC/DC Converter Differential (+) Output Voltage or Current-5 Sensing Pins", 63 VSENSEM5 (in) "DC/DC Converter Differential (-) Output Voltage or Current-5 Sensing Pins", 64 VSENSEP6 (in) "DC/DC Converter Differential (+) Output Voltage-6 Sensing Pin"
part B pins: 12 VIN_EN (out) "DC/DC Converter VIN ENABLE Pin. Output High Voltage Optionally Pulled Up to 12V by 5uA", 13 DNC "Do Not Connect to This Pin", 16 VDD33 (power) "If Shorted to VPWR, it Serves as 3.13V to 3.47V Supply Input Pin. Otherwise, it is a 3.3V Internally Regulated Voltage Output (Use 0.1uF Decoupling Capacitor to GND).", 17 VDD33 (power) "Input for Internal 2.5V Sub-Regulator. Short This Pin to Pin 16.", 18 VDD25 (power) "2.5V Internally Regulated Voltage Output. Bypass to GND with a 0.1uF Capacitor.", 19 WP (in) "Digital Input. Write-Protect Input Pin, Active High.", 20 PWRGD (oc) "Power Good Open-Drain Output. Indicates When Outputs are Power Good. Can be Used as System Power-On Reset.", 21 SHARE_CLK (io) "Bidirectional Clock Sharing Pin. Connect a 5.49k Pull-Up Resistor to VDD33.", 22 WDI/RESETB (in) "Watchdog Timer Interrupt and Chip Reset Input. Connect a 10k Pull-Up Resistor to VDD33. Rising Edge Resets Watchdog Counter. Holding This Pin Low for More Than tRESETB Resets the Chip.", 23 FAULTB00 (io) "Open-Drain Output and Digital Input. Active Low Bidirectional Fault Indicator-00. Connect a 10k Pull-Up Resistor to VDD33.", 24 FAULTB01 (io) "Open-Drain Output and Digital Input. Active Low Bidirectional Fault Indicator-01. Connect a 10k Pull-Up Resistor to VDD33.", 25 FAULTB10 (io) "Open-Drain Output and Digital Input. Active Low Bidirectional Fault Indicator-10. Connect a 10k Pull-Up Resistor to VDD33.", 26 FAULTB11 (io) "Open-Drain Output and Digital Input. Active Low Bidirectional Fault Indicator-11. Connect a 10k Pull-Up Resistor to VDD33.", 27 SDA (io) "PMBus Bidirectional Serial Data Pin", 28 SCL (in) "PMBus Serial Clock Input Pin (400kHz Maximum)", 29 ALERTB (oc) "Open-Drain Output. Generates an Interrupt Request in a Fault/Warning Situation.", 30 CONTROL0 (in) "Control Pin 0 Input", 31 CONTROL1 (in) "Control Pin 1 Input", 32 ASEL0 (in) "Ternary Address Select Pin 0 Input. Connect to VDD33, GND or Float to Encode 1 of 3 Logic States.", 33 ASEL1 (in) "Ternary Address Select Pin 1 Input. Connect to VDD33, GND or Float to Encode 1 of 3 Logic States.", 34 REFP "Reference Voltage Output. Needs 0.1uF Decoupling Capacitor to REFM.", 35 REFM "Reference Return Pin. Needs 0.1uF Decoupling Capacitor to REFP.", 65 EP (power) "Exposed Pad, Must be Soldered to PCB"

## LTC2977IUP#PBF
designator U?
8-Channel PMBus Power System Manager Featuring Accurate Output Voltage Measurement, 64-pin QFN (UP-64), -40 to 105 degC, Pb-Free; Manufacturer: Linear Technology; PartNumber: LTC2977IUP#PBF; Number of Supplies(#): 8; PackageVersion: Rev. C, 06/2010; PackageReference: UP-64; PackageDescription: 64-Pin Plastic QFN, Body 9 x 9 mm, Pitch 0.5 mm; Supplier 1: Digi-Key; Supplier Part Number 1: LTC2977IUP#PBF-ND; Supplier 2: Farnell; Supplier Part Number 2: 2322394; Supplier 3: Newark; Supplier Part Number 3: 86W7064; RoHS: TRUE; Mounting Technology: Surface Mount; Code_JEDEC: MO-220; ComponentLink1Description: Manufacturer URL; ComponentLink1URL: http://www.linear.com/; ComponentLink2Description: Datasheet; ComponentLink2URL: http://cds.linear.com/docs/en/datasheet/2977f.pdf; ComponentLink3Description: Package Specification; ComponentLink3URL: http://cds.linear.com/docs/en/packaging/QFN_64_05-08-1705.pdf
footprint LT-UP-64_N (QFN, 64-Leads, Body 9.1x9.1mm, Pitch 0.5mm, Thermal Pad 7.15x7.15mm, IPC Medium Density)
footprint LT-UP-64_L (QFN, 64-Leads, Body 9.1x9.1mm, Pitch 0.5mm, Thermal Pad 7.15x7.15mm, IPC High Density)
footprint LT-UP-64_M (QFN, 64-Leads, Body 9.1x9.1mm, Pitch 0.5mm, Thermal Pad 7.15x7.15mm, IPC Low Density)
part A pins: 1 VSENSEM6 (in) "DC/DC Converter Differential (-) Output Voltage-6 Sensing Pin", 2 VSENSEP7 (in) "DC/DC Converter Differential (+) Output Voltage or Current-7 Sensing Pin", 3 VSENSEM7 (in) "DC/DC Converter Differential (-) Output Voltage or Current-7 Sensing Pin", 4 VOUT_EN0 (out) "DC/DC Converter Enable-0 Pin. Output High Voltage Optionally Pulled Up to 12V by 5uA", 5 VOUT_EN1 (out) "DC/DC Converter Enable-1 Pin. Output High Voltage Optionally Pulled Up to 12V by 5uA", 6 VOUT_EN2 (out) "DC/DC Converter Enable-2 Pin. Output High Voltage Optionally Pulled Up to 12V by 5uA", 7 VOUT_EN3 (out) "DC/DC Converter Enable-3 Pin. Output High Voltage Optionally Pulled Up to 12V by 5uA", 8 VOUT_EN4 (oc) "DC/DC Converter Open-Drain Pull-Down Output-4", 9 VOUT_EN5 (oc) "DC/DC Converter Open-Drain Pull-Down Output-5", 10 VOUT_EN6 (oc) "DC/DC Converter Open-Drain Pull-Down Output-6", 11 VOUT_EN7 (oc) "DC/DC Converter Open-Drain Pull-Down Output-7", 14 VIN_SNS (in) "VIN SENSE Input. This Voltage is Compared Against the VIN On and Off Voltage Thresholds in Order to Determine When to Enable and Disable, Respectively, the Downstream DC/DC Converters.", 15 VPWR (power) "VPWR Serves as the Unregulated Power Supply Input to the Chip (4.5V to 15V). If a 4.5V to 15V Supply Voltage is Unavailable, Short VPWR to VDD33 and Power the Chip Directly from a 3.3V Supply. Bypass to GND with 0.1uF (See Datasheet)", 36 VSENSEP0 (in) "DC/DC Converter Differential (+) Output Voltage-0 Sensing Pin", 37 VSENSEM0 (in) "DC/DC Converter Differential (-) Output Voltage-0 Sensing Pin", 38 VDACM0 (out) "DAC0 Return. Connect to Channel 0 DC/DC Converter's GND Sense or Return to GND.", 39 VDACP0 (hiz) "DAC0 Output", 40 VDACP1 (hiz) "DAC1 Output", 41 VDACM1 (out) "DAC1 Return. Connect to Channel 1 DC/DC Converter's GND Sense or Return to GND.", 42 VSENSEP1 (in) "DC/DC Converter Differential (+) Output Voltage or Current-1 Sensing Pins", 43 VSENSEM1 (in) "DC/DC Converter Differential (-) Output Voltage or Current-1 Sensing Pins", 44 VDACP2 (hiz) "DAC2 Output", 45 VDACM2 (out) "DAC2 Return. Connect to Channel 2 DC/DC Converter's GND Sense or Return to GND.", 46 VSENSEP2 (in) "DC/DC Converter Differential (+) Output Voltage-2 Sensing Pin", 47 VSENSEM2 (in) "DC/DC Converter Differential (-) Output Voltage-2 Sensing Pin", 48 VSENSEP3 (in) "DC/DC Converter Differential (+) Output Voltage or Current-3 Sensing Pins", 49 VSENSEM3 (in) "DC/DC Converter Differential (-) Output Voltage or Current-3 Sensing Pins", 50 VDACP3 (hiz) "DAC3 Output", 51 VDACM3 (out) "DAC3 Return. Connect to Channel 3 DC/DC Converter's GND Sense or Return to GND.", 52 VSENSEP4 (in) "DC/DC Converter Differential (+) Output Voltage-4 Sensing Pin", 53 VSENSEM4 (in) "DC/DC Converter Differential (-) Output Voltage-4 Sensing Pin", 54 VDACM4 (out) "DAC4 Return. Connect to Channel 4 DC/DC Converter's GND Sense or Return to GND.", 55 VDACP4 (hiz) "DAC4 Output", 56 VDACP5 (hiz) "DAC5 Output", 57 VDACM5 (out) "DAC5 Return. Connect to Channel 5 DC/DC Converter's GND Sense or Return to GND.", 58 VDACM6 (out) "DAC6 Return. Connect to Channel 6 DC/DC Converter's GND Sense or Return to GND.", 59 VDACP6 (hiz) "DAC6 Output", 60 VDACP7 (hiz) "DAC7 Output", 61 VDACM7 (out) "DAC7 Return. Connect to Channel 7 DC/DC Converter's GND Sense or Return to GND.", 62 VSENSEP5 (in) "DC/DC Converter Differential (+) Output Voltage or Current-5 Sensing Pins", 63 VSENSEM5 (in) "DC/DC Converter Differential (-) Output Voltage or Current-5 Sensing Pins", 64 VSENSEP6 (in) "DC/DC Converter Differential (+) Output Voltage-6 Sensing Pin"
part B pins: 12 VIN_EN (out) "DC/DC Converter VIN ENABLE Pin. Output High Voltage Optionally Pulled Up to 12V by 5uA", 13 DNC "Do Not Connect to This Pin", 16 VDD33 (power) "If Shorted to VPWR, it Serves as 3.13V to 3.47V Supply Input Pin. Otherwise, it is a 3.3V Internally Regulated Voltage Output (Use 0.1uF Decoupling Capacitor to GND).", 17 VDD33 (power) "Input for Internal 2.5V Sub-Regulator. Short This Pin to Pin 16.", 18 VDD25 (power) "2.5V Internally Regulated Voltage Output. Bypass to GND with a 0.1uF Capacitor.", 19 WP (in) "Digital Input. Write-Protect Input Pin, Active High.", 20 PWRGD (oc) "Power Good Open-Drain Output. Indicates When Outputs are Power Good. Can be Used as System Power-On Reset.", 21 SHARE_CLK (io) "Bidirectional Clock Sharing Pin. Connect a 5.49k Pull-Up Resistor to VDD33.", 22 WDI/RESETB (in) "Watchdog Timer Interrupt and Chip Reset Input. Connect a 10k Pull-Up Resistor to VDD33. Rising Edge Resets Watchdog Counter. Holding This Pin Low for More Than tRESETB Resets the Chip.", 23 FAULTB00 (io) "Open-Drain Output and Digital Input. Active Low Bidirectional Fault Indicator-00. Connect a 10k Pull-Up Resistor to VDD33.", 24 FAULTB01 (io) "Open-Drain Output and Digital Input. Active Low Bidirectional Fault Indicator-01. Connect a 10k Pull-Up Resistor to VDD33.", 25 FAULTB10 (io) "Open-Drain Output and Digital Input. Active Low Bidirectional Fault Indicator-10. Connect a 10k Pull-Up Resistor to VDD33.", 26 FAULTB11 (io) "Open-Drain Output and Digital Input. Active Low Bidirectional Fault Indicator-11. Connect a 10k Pull-Up Resistor to VDD33.", 27 SDA (io) "PMBus Bidirectional Serial Data Pin", 28 SCL (in) "PMBus Serial Clock Input Pin (400kHz Maximum)", 29 ALERTB (oc) "Open-Drain Output. Generates an Interrupt Request in a Fault/Warning Situation.", 30 CONTROL0 (in) "Control Pin 0 Input", 31 CONTROL1 (in) "Control Pin 1 Input", 32 ASEL0 (in) "Ternary Address Select Pin 0 Input. Connect to VDD33, GND or Float to Encode 1 of 3 Logic States.", 33 ASEL1 (in) "Ternary Address Select Pin 1 Input. Connect to VDD33, GND or Float to Encode 1 of 3 Logic States.", 34 REFP "Reference Voltage Output. Needs 0.1uF Decoupling Capacitor to REFM.", 35 REFM "Reference Return Pin. Needs 0.1uF Decoupling Capacitor to REFP.", 65 EP (power) "Exposed Pad, Must be Soldered to PCB"

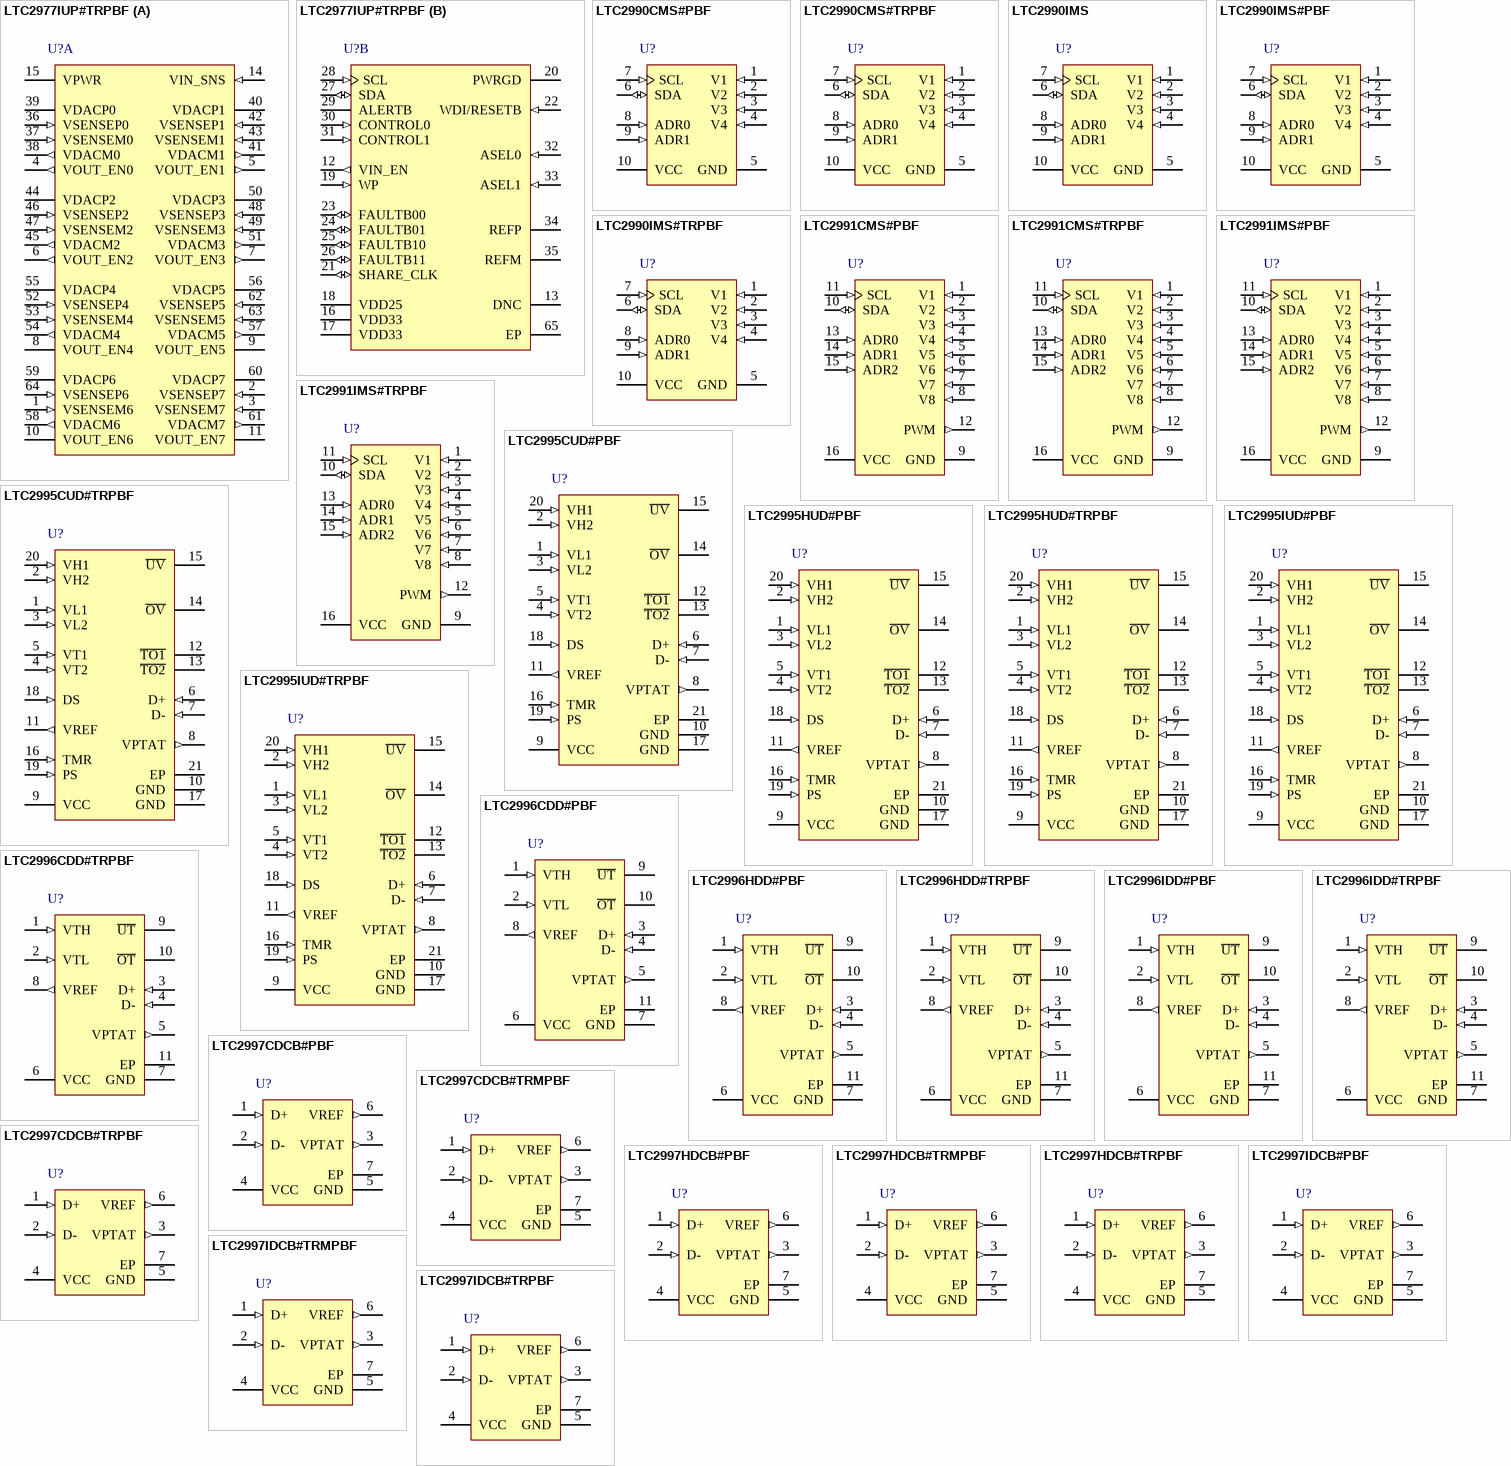
[diagram p44: symbols LTC2977IUP#TRPBF to LTC2997IDCB#TRPBF]

## LTC2977IUP#TRPBF
designator U?
8-Channel PMBus Power System Manager Featuring Accurate Output Voltage Measurement, 64-pin QFN (UP-64), -40 to 105 degC, Pb-Free, Tape and Reel; Manufacturer: Linear Technology; PartNumber: LTC2977IUP#TRPBF; Number of Supplies(#): 8; PackageVersion: Rev. C, 06/2010; PackageReference: UP-64; PackageDescription: 64-Pin Plastic QFN, Body 9 x 9 mm, Pitch 0.5 mm; Supplier 1: Digi-Key; Supplier Part Number 1: LTC2977IUP#TRPBF-ND; Supplier 2: Newark; Supplier Part Number 2: 86W7065; Supplier 3: Newark; Supplier Part Number 3: 87W6204; Packing: Tape and Reel; RoHS: TRUE; Mounting Technology: Surface Mount; Code_JEDEC: MO-220; ComponentLink1Description: Manufacturer URL; ComponentLink1URL: http://www.linear.com/; ComponentLink2Description: Datasheet; ComponentLink2URL: http://cds.linear.com/docs/en/datasheet/2977f.pdf; ComponentLink3Description: Package Specification; ComponentLink3URL: http://cds.linear.com/docs/en/packaging/QFN_64_05-08-1705.pdf
footprint LT-UP-64_N (QFN, 64-Leads, Body 9.1x9.1mm, Pitch 0.5mm, Thermal Pad 7.15x7.15mm, IPC Medium Density)
footprint LT-UP-64_L (QFN, 64-Leads, Body 9.1x9.1mm, Pitch 0.5mm, Thermal Pad 7.15x7.15mm, IPC High Density)
footprint LT-UP-64_M (QFN, 64-Leads, Body 9.1x9.1mm, Pitch 0.5mm, Thermal Pad 7.15x7.15mm, IPC Low Density)
part A pins: 1 VSENSEM6 (in) "DC/DC Converter Differential (-) Output Voltage-6 Sensing Pin", 2 VSENSEP7 (in) "DC/DC Converter Differential (+) Output Voltage or Current-7 Sensing Pin", 3 VSENSEM7 (in) "DC/DC Converter Differential (-) Output Voltage or Current-7 Sensing Pin", 4 VOUT_EN0 (out) "DC/DC Converter Enable-0 Pin. Output High Voltage Optionally Pulled Up to 12V by 5uA", 5 VOUT_EN1 (out) "DC/DC Converter Enable-1 Pin. Output High Voltage Optionally Pulled Up to 12V by 5uA", 6 VOUT_EN2 (out) "DC/DC Converter Enable-2 Pin. Output High Voltage Optionally Pulled Up to 12V by 5uA", 7 VOUT_EN3 (out) "DC/DC Converter Enable-3 Pin. Output High Voltage Optionally Pulled Up to 12V by 5uA", 8 VOUT_EN4 (oc) "DC/DC Converter Open-Drain Pull-Down Output-4", 9 VOUT_EN5 (oc) "DC/DC Converter Open-Drain Pull-Down Output-5", 10 VOUT_EN6 (oc) "DC/DC Converter Open-Drain Pull-Down Output-6", 11 VOUT_EN7 (oc) "DC/DC Converter Open-Drain Pull-Down Output-7", 14 VIN_SNS (in) "VIN SENSE Input. This Voltage is Compared Against the VIN On and Off Voltage Thresholds in Order to Determine When to Enable and Disable, Respectively, the Downstream DC/DC Converters.", 15 VPWR (power) "VPWR Serves as the Unregulated Power Supply Input to the Chip (4.5V to 15V). If a 4.5V to 15V Supply Voltage is Unavailable, Short VPWR to VDD33 and Power the Chip Directly from a 3.3V Supply. Bypass to GND with 0.1uF (See Datasheet)", 36 VSENSEP0 (in) "DC/DC Converter Differential (+) Output Voltage-0 Sensing Pin", 37 VSENSEM0 (in) "DC/DC Converter Differential (-) Output Voltage-0 Sensing Pin", 38 VDACM0 (out) "DAC0 Return. Connect to Channel 0 DC/DC Converter's GND Sense or Return to GND.", 39 VDACP0 (hiz) "DAC0 Output", 40 VDACP1 (hiz) "DAC1 Output", 41 VDACM1 (out) "DAC1 Return. Connect to Channel 1 DC/DC Converter's GND Sense or Return to GND.", 42 VSENSEP1 (in) "DC/DC Converter Differential (+) Output Voltage or Current-1 Sensing Pins", 43 VSENSEM1 (in) "DC/DC Converter Differential (-) Output Voltage or Current-1 Sensing Pins", 44 VDACP2 (hiz) "DAC2 Output", 45 VDACM2 (out) "DAC2 Return. Connect to Channel 2 DC/DC Converter's GND Sense or Return to GND.", 46 VSENSEP2 (in) "DC/DC Converter Differential (+) Output Voltage-2 Sensing Pin", 47 VSENSEM2 (in) "DC/DC Converter Differential (-) Output Voltage-2 Sensing Pin", 48 VSENSEP3 (in) "DC/DC Converter Differential (+) Output Voltage or Current-3 Sensing Pins", 49 VSENSEM3 (in) "DC/DC Converter Differential (-) Output Voltage or Current-3 Sensing Pins", 50 VDACP3 (hiz) "DAC3 Output", 51 VDACM3 (out) "DAC3 Return. Connect to Channel 3 DC/DC Converter's GND Sense or Return to GND.", 52 VSENSEP4 (in) "DC/DC Converter Differential (+) Output Voltage-4 Sensing Pin", 53 VSENSEM4 (in) "DC/DC Converter Differential (-) Output Voltage-4 Sensing Pin", 54 VDACM4 (out) "DAC4 Return. Connect to Channel 4 DC/DC Converter's GND Sense or Return to GND.", 55 VDACP4 (hiz) "DAC4 Output", 56 VDACP5 (hiz) "DAC5 Output", 57 VDACM5 (out) "DAC5 Return. Connect to Channel 5 DC/DC Converter's GND Sense or Return to GND.", 58 VDACM6 (out) "DAC6 Return. Connect to Channel 6 DC/DC Converter's GND Sense or Return to GND.", 59 VDACP6 (hiz) "DAC6 Output", 60 VDACP7 (hiz) "DAC7 Output", 61 VDACM7 (out) "DAC7 Return. Connect to Channel 7 DC/DC Converter's GND Sense or Return to GND.", 62 VSENSEP5 (in) "DC/DC Converter Differential (+) Output Voltage or Current-5 Sensing Pins", 63 VSENSEM5 (in) "DC/DC Converter Differential (-) Output Voltage or Current-5 Sensing Pins", 64 VSENSEP6 (in) "DC/DC Converter Differential (+) Output Voltage-6 Sensing Pin"
part B pins: 12 VIN_EN (out) "DC/DC Converter VIN ENABLE Pin. Output High Voltage Optionally Pulled Up to 12V by 5uA", 13 DNC "Do Not Connect to This Pin", 16 VDD33 (power) "If Shorted to VPWR, it Serves as 3.13V to 3.47V Supply Input Pin. Otherwise, it is a 3.3V Internally Regulated Voltage Output (Use 0.1uF Decoupling Capacitor to GND).", 17 VDD33 (power) "Input for Internal 2.5V Sub-Regulator. Short This Pin to Pin 16.", 18 VDD25 (power) "2.5V Internally Regulated Voltage Output. Bypass to GND with a 0.1uF Capacitor.", 19 WP (in) "Digital Input. Write-Protect Input Pin, Active High.", 20 PWRGD (oc) "Power Good Open-Drain Output. Indicates When Outputs are Power Good. Can be Used as System Power-On Reset.", 21 SHARE_CLK (io) "Bidirectional Clock Sharing Pin. Connect a 5.49k Pull-Up Resistor to VDD33.", 22 WDI/RESETB (in) "Watchdog Timer Interrupt and Chip Reset Input. Connect a 10k Pull-Up Resistor to VDD33. Rising Edge Resets Watchdog Counter. Holding This Pin Low for More Than tRESETB Resets the Chip.", 23 FAULTB00 (io) "Open-Drain Output and Digital Input. Active Low Bidirectional Fault Indicator-00. Connect a 10k Pull-Up Resistor to VDD33.", 24 FAULTB01 (io) "Open-Drain Output and Digital Input. Active Low Bidirectional Fault Indicator-01. Connect a 10k Pull-Up Resistor to VDD33.", 25 FAULTB10 (io) "Open-Drain Output and Digital Input. Active Low Bidirectional Fault Indicator-10. Connect a 10k Pull-Up Resistor to VDD33.", 26 FAULTB11 (io) "Open-Drain Output and Digital Input. Active Low Bidirectional Fault Indicator-11. Connect a 10k Pull-Up Resistor to VDD33.", 27 SDA (io) "PMBus Bidirectional Serial Data Pin", 28 SCL (in) "PMBus Serial Clock Input Pin (400kHz Maximum)", 29 ALERTB (oc) "Open-Drain Output. Generates an Interrupt Request in a Fault/Warning Situation.", 30 CONTROL0 (in) "Control Pin 0 Input", 31 CONTROL1 (in) "Control Pin 1 Input", 32 ASEL0 (in) "Ternary Address Select Pin 0 Input. Connect to VDD33, GND or Float to Encode 1 of 3 Logic States.", 33 ASEL1 (in) "Ternary Address Select Pin 1 Input. Connect to VDD33, GND or Float to Encode 1 of 3 Logic States.", 34 REFP "Reference Voltage Output. Needs 0.1uF Decoupling Capacitor to REFM.", 35 REFM "Reference Return Pin. Needs 0.1uF Decoupling Capacitor to REFP.", 65 EP (power) "Exposed Pad, Must be Soldered to PCB"